# Altium footprint library Mainboard_footprints.PcbLib: 18 footprints (part 2 of 2)
Each footprint in its own frame and in the unit in brackets; x right, y up, seen from the top. Pads: shape width x height; smd on the part's side, far side on the other; paste and mask are expansions set on the pad; w line width, h text height; cw(c..) or ccw(c..) is an arc to the next point about the centre after c.
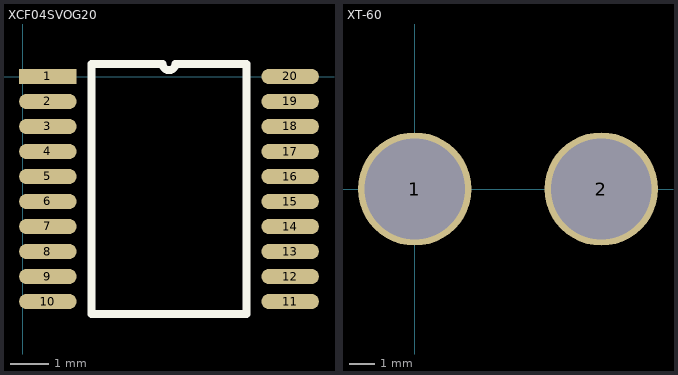
[diagram p1: the footprints below, top view; thin cyan lines are the x and y axes]

## XCF04SVOG20 [mm]
pads (20):
  rect 1.5x0.4 smd: 1(0.65,0)
  oval 1.5x0.4 smd: 2(0.65,-0.65) 3(0.65,-1.3) 4(0.65,-1.95) 5(0.65,-2.6) 6(0.65,-3.25) 7(0.65,-3.9) 8(0.65,-4.55) 9(0.65,-5.2) 10(0.65,-5.85) 11(6.95,-5.85) 12(6.95,-5.2) 13(6.95,-4.55) 14(6.95,-3.9) 15(6.95,-3.25) 16(6.95,-2.6) 17(6.95,-1.95) 18(6.95,-1.3) 19(6.95,-0.65) 20(6.95,0)
Top Overlay:
  lines w0.2: 1.785,-6.175 1.785,0.325 3.638,0.325 ccw(c3.8,0.325) 3.962,0.325 5.815,0.325 5.815,-6.175 1.785,-6.175

## XT-60 [mm]
pads (2):
  round 4.5 hole 4: 1(0,0) 2(7.4,0)